# Altium footprint library PCB11.PcbLib: 36 footprints (part 1 of 3)
Each footprint in its own frame and in the unit in brackets; x right, y up, seen from the top. Pads: shape width x height; smd on the part's side, far side on the other; paste and mask are expansions set on the pad; w line width, h text height; cw(c..) or ccw(c..) is an arc to the next point about the centre after c.
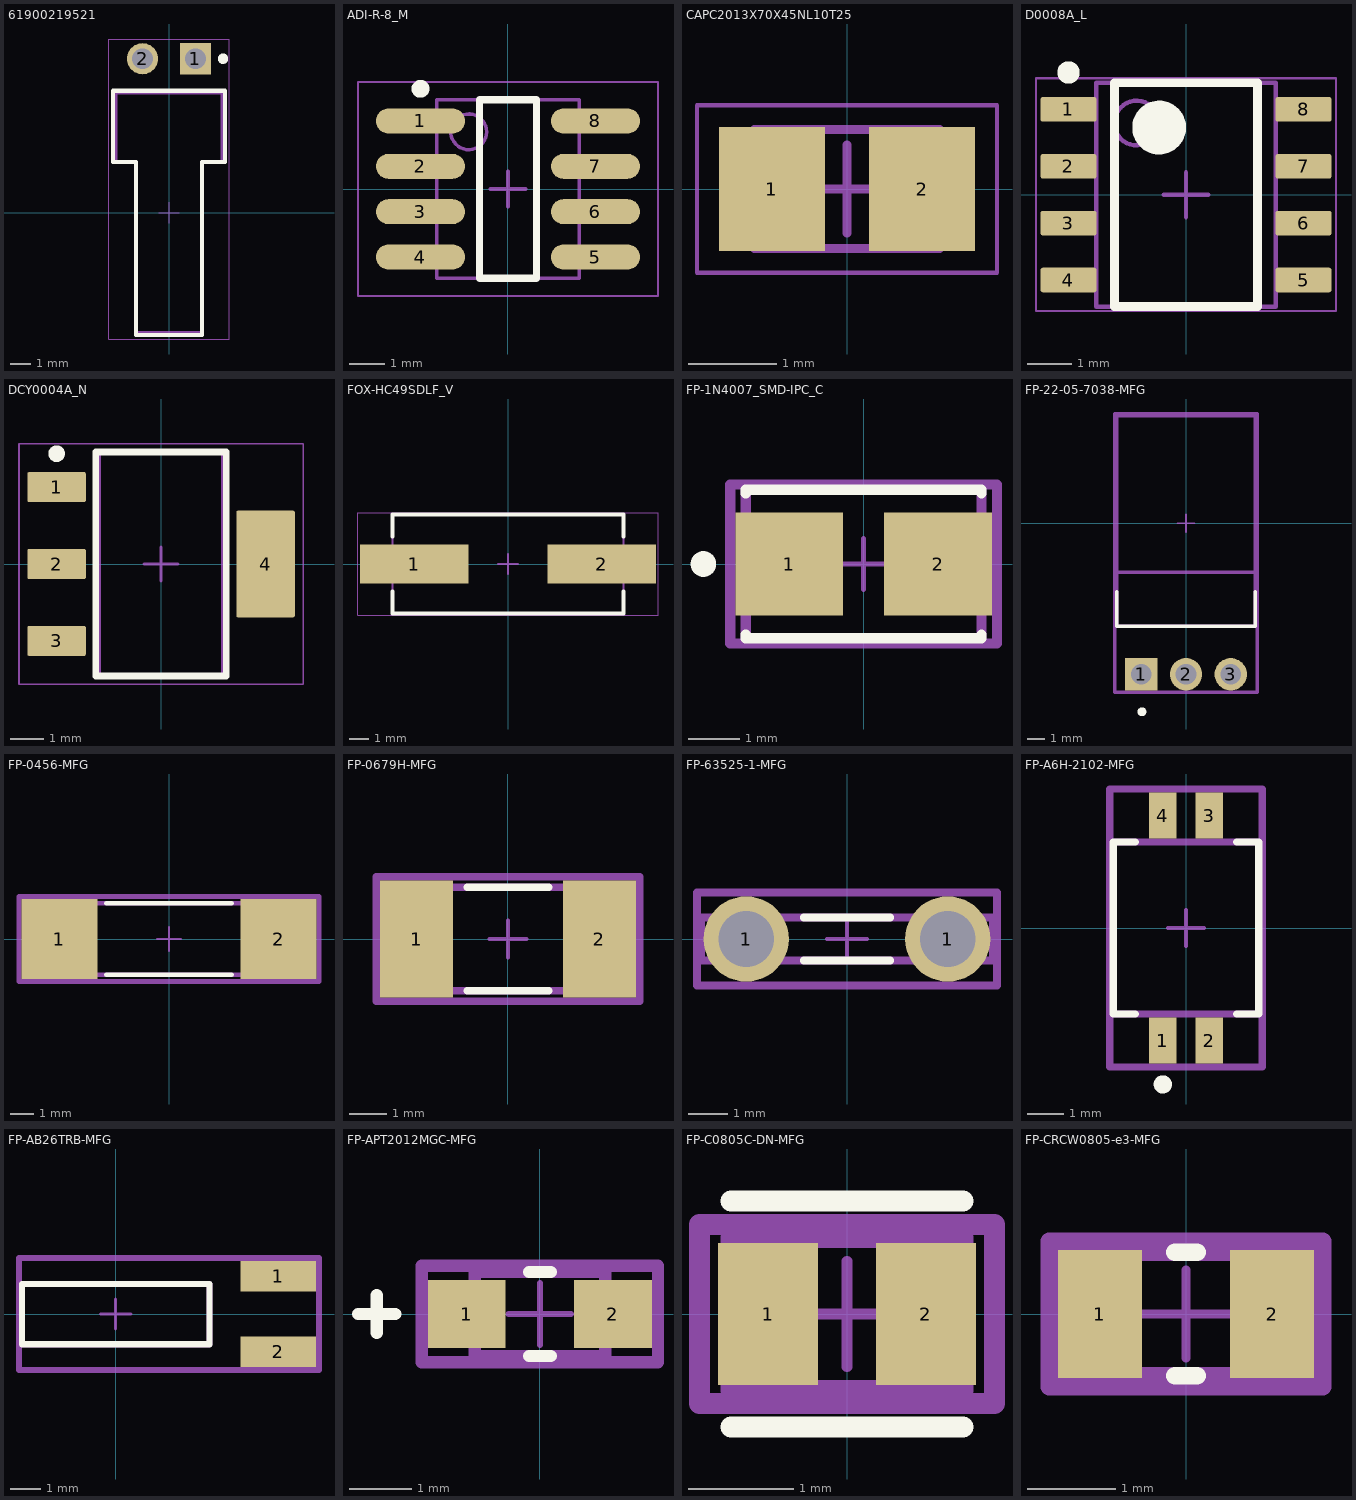
[diagram p0: the footprints below, top view; thin cyan lines are the x and y axes]

## 61900219521 [mm] "2.54mm Male Right Angled Locking Header Top Locking, 2p"
height 5.8
pads (2):
  rect 1.5x1.5 hole 1: 1(1.27,7.42)
  round 1.5 hole 1: 2(-1.27,7.42)
Top Overlay:
  circle w0.25: c2.6,7.42 r0.125
  lines w0.2: -2.69,2.45 -1.59,2.45 -1.59,-5.875 1.59,-5.875 1.59,2.45 2.69,2.45 2.69,5.875 -2.69,5.875 -2.69,2.45
Top 3D Body:
  lines w0.1: -2.54,2.45 -1.59,2.45 -1.59,-5.75 1.59,-5.75 1.59,2.45 2.54,2.45 2.54,5.75 -2.54,5.75 -2.54,2.45
Top Courtyard:
  lines w0.05: -0.5,0 0.5,0 ; 0,-0.5 0,0.5 ; -2.89,-6.075 -2.89,8.37 2.89,8.37 2.89,-6.075 -2.89,-6.075
3D body "61900219521.stp": height 5.83, standoff -3.37, extent -2.54,-5.75 2.54,7.77

## ADI-R-8_M [mm] "SOIC, 8-Leads, Body 4.9x3.9mm, Pitch 1.27mm, IPC Low Density"
height 1.75
pads (8):
  oval 2.5x0.7 smd: 1(-2.45,1.905) 2(-2.45,0.635) 3(-2.45,-0.635) 4(-2.45,-1.905) 5(2.45,-1.905) 6(2.45,-0.635) 7(2.45,0.635) 8(2.45,1.905)
Top Overlay:
  circle w0.25: c-2.45,2.805 r0.125
  lines w0.2: -0.8,-2.5 -0.8,2.5 0.8,2.5 0.8,-2.5 -0.8,-2.5
Top 3D Body:
  circle w0.1: c-1.1,1.6 r0.5
  lines w0.1: -2,-2.5 -2,2.5 2,2.5 2,-2.5 -2,-2.5
Top Courtyard:
  lines w0.05: -4.2,-3 -4.2,3 4.2,3 4.2,-3 -4.2,-3
  lines w0.1: -0.5,0 0.5,0 ; 0,-0.5 0,0.5
3D body: height 1.75, standoff 0.1, extent -2,-2.5 2,2.5

## CAPC2013X70X45NL10T25 [mm] "Chip Capacitor, 2-Leads, Body 2.00x1.25mm, IPC Medium Density"
height 0.7
pads (2):
  rect 1.2x1.4 smd: 1(-0.85,0) 2(0.85,0)
Top 3D Body:
  lines w0.1: -1.05,-0.675 -1.05,0.675 1.05,0.675 1.05,-0.675 -1.05,-0.675
Top Courtyard:
  lines w0.05: -1.7,-0.95 -1.7,0.95 1.7,0.95 1.7,-0.95 -1.7,-0.95
  lines w0.1: -0.5,0 0.5,0 ; 0,-0.5 0,0.5
3D body: height 0.7, standoff 0, extent -0.6,-0.675 0.6,0.675
3D body: height 0.7, standoff 0, extent -1.05,-0.675 -0.6,0.675
3D body: height 0.7, standoff 0, extent 0.6,-0.675 1.05,0.675

## D0008A_L [mm] "SOIC, 8-Leads, Body 5x4mm, Pitch 1.27mm, IPC High Density"
height 1.75
pads (8):
  rrect18% 1.25x0.55 smd: 1(-2.625,1.905) 2(-2.625,0.635) 3(-2.625,-0.635) 4(-2.625,-1.905) 5(2.625,-1.905) 6(2.625,-0.635) 7(2.625,0.635) 8(2.625,1.905)
Top Overlay:
  circle w0.25: c-2.625,2.73 r0.125
  circle w0.6: c-0.6,1.5 r0.3
  lines w0.2: -1.6,-2.5 -1.6,2.5 1.6,2.5 1.6,-2.5 -1.6,-2.5
Mechanical 1:
  text ".Designator" at -1.397,-0.254 h0.6
Top 3D Body:
  circle w0.1: c-1.1,1.6 r0.5
  lines w0.1: -2,-2.5 -2,2.5 2,2.5 2,-2.5 -2,-2.5
Top Courtyard:
  lines w0.05: -3.35,-2.6 -3.35,2.6 3.35,2.6 3.35,-2.6 -3.35,-2.6
  lines w0.1: -0.5,0 0.5,0 ; 0,-0.5 0,0.5
3D body "SOIC-8akaD0008AakaM08A.stp": height 1.63, standoff 0, extent -3,-2.45 3,2.45

## DCY0004A_N [mm] "SOT223, 4-Leads, Body 6.7x3.7mm, Pitch 2.3mm, IPC Medium Density"
height 1.8
pads (4):
  rrect11% 1.75x0.9 smd: 1(-3.125,2.3) 2(-3.125,0) 3(-3.125,-2.3)
  rrect6% 1.75x3.2 smd: 4(3.125,0)
Top Overlay:
  circle w0.25: c-3.125,3.3 r0.125
  lines w0.2: -1.95,-3.35 -1.95,3.35 1.95,3.35 1.95,-3.35 -1.95,-3.35
Mechanical 1:
  text ".Designator" at -1.651,-0.254 h0.8
Top 3D Body:
  lines w0.1: -1.85,-3.35 -1.85,3.35 1.85,3.35 1.85,-3.35 -1.85,-3.35
Top Courtyard:
  lines w0.05: -4.25,-3.6 -4.25,3.6 4.25,3.6 4.25,-3.6 -4.25,-3.6
  lines w0.1: -0.5,0 0.5,0 ; 0,-0.5 0,0.5
3D body "SOT-223.stp": height 1.62, standoff -0.03, extent -3.5,-3.25 3.5,3.25

## FOX-HC49SDLF_V [mm] "SMD, 2-Leads, Body 5x11.7mm"
height 4.5
pads (2):
  rect 5.5x2 smd: 1(-4.75,0) 2(4.75,0)
Top Overlay:
  lines w0.2: -5.85,-1.4 -5.85,-2.5 5.85,-2.5 5.85,-1.4 ; -5.85,1.4 -5.85,2.5 5.85,2.5 5.85,1.4
Top 3D Body:
  lines w0.1: -5.85,-2.5 5.85,-2.5 5.85,2.5 -5.85,2.5 -5.85,-2.5
Top Courtyard:
  lines w0.05: -7.6,-2.6 -7.6,2.6 7.6,2.6 7.6,-2.6 -7.6,-2.6
  lines w0.1: -0.5,0 0.5,0 ; 0,-0.5 0,0.5
3D body "User Library-HC-49S.STEP": height 4.34, standoff -0.01, extent -6.15,-2.35 6.15,2.35

## FP-1N4007_SMD-IPC_C [mm]
pads (2):
  rect 2.1x2 smd paste+0 mask+0: 1(-1.45,0) 2(1.45,0)
Top Overlay:
  circle w0.25: c-3.125,0 r0.125
  lines w0.2: -2.3,-1.375 -2.3,-1.45 2.3,-1.45 2.3,-1.375 ; -2.3,1.375 -2.3,1.45 2.3,1.45 2.3,1.375
Top Assembly:
  lines w0.2: -2.6,-1.55 2.6,-1.55 2.6,1.55 -2.6,1.55 -2.6,-1.55
Top 3D Body:
  lines w0.2: -2.3,-1.45 2.3,-1.45 2.3,1.45 -2.3,1.45 -2.3,-1.45
Top Courtyard:
  lines w0.2: -2.6,-1.55 2.6,-1.55 2.6,1.55 -2.6,1.55 -2.6,-1.55
Top Component Center:
  lines w0.1: -0.5,0 0.5,0 ; 0,-0.5 0,0.5
3D body "Diode_Multicomp_1N4007_SMD_eec.STEP": height 0.25, standoff 0, extent -2.6,-1.55 2.6,1.55

## FP-22-05-7038-MFG [mm]
pads (3):
  rect 1.84x1.84 hole 1.19 paste-1000 mask+0: 1(-2.54,-8.57)
  round 1.84 hole 1.19 paste-1000 mask+0: 2(0,-8.57) 3(2.54,-8.57)
Top Overlay:
  circle w0.25: c-2.5,-10.7 r0.125
  lines w0.2: -3.935,-3.875 -3.935,-5.85 3.935,-5.85 3.935,-3.875
Top Assembly:
  lines w0.2: -4.035,-9.59 4.035,-9.59 4.035,6.2 -4.035,6.2 -4.035,-9.59
Top 3D Body:
  lines w0.2: -4.035,-2.77 4.035,-2.77 ; -3.935,-5.85 3.935,-5.85 3.935,6.1 -3.935,6.1 -3.935,-5.85
Top Courtyard:
  lines w0.2: -4.035,-9.59 4.035,-9.59 4.035,6.2 -4.035,6.2 -4.035,-9.59
Top Component Center:
  lines w0.1: -0.5,0 0.5,0 ; 0,-0.5 0,0.5
3D body "Conn_Molex_22-05-7038_eec.STEP": height 0.25, standoff 0, extent -4.035,-9.59 4.035,6.2

## FP-0456-MFG [mm]
pads (2):
  rect 3.25x3.43 smd paste+0 mask+0: 1(-4.675,0) 2(4.675,0)
Top Overlay:
  lines w0.2: -2.675,-1.525 2.675,-1.525 ; -2.675,1.525 2.675,1.525
Top Assembly:
  lines w0.2: -6.4,-1.815 6.4,-1.815 6.4,1.815 -6.4,1.815 -6.4,-1.815
Top 3D Body:
  lines w0.2: -5.04,-1.525 5.04,-1.525 5.04,1.525 -5.04,1.525 -5.04,-1.525
Top Courtyard:
  lines w0.2: -6.4,-1.815 6.4,-1.815 6.4,1.815 -6.4,1.815 -6.4,-1.815
Top Component Center:
  lines w0.1: -0.5,0 0.5,0 ; 0,-0.5 0,0.5
3D body "Fuse_Littelfuse_0456030_ER_eec.STEP": height 0.25, standoff 0, extent -6.4,-1.815 6.4,1.815

## FP-0679H-MFG [mm]
pads (2):
  rect 1.96x3.15 smd paste+0 mask+0: 1(-2.455,0) 2(2.455,0)
Top Overlay:
  lines w0.2: -1.1,-1.395 1.1,-1.395 ; -1.1,1.395 1.1,1.395
Top Assembly:
  lines w0.2: -3.535,-1.675 3.535,-1.675 3.535,1.675 -3.535,1.675 -3.535,-1.675
Top 3D Body:
  lines w0.2: -3.175,-1.395 3.175,-1.395 3.175,1.395 -3.175,1.395 -3.175,-1.395
Top Courtyard:
  lines w0.2: -3.535,-1.675 3.535,-1.675 3.535,1.675 -3.535,1.675 -3.535,-1.675
Top Component Center:
  lines w0.1: -0.5,0 0.5,0 ; 0,-0.5 0,0.5
3D body "Fuse_Bel_Fuse_0679H1500-05_eec.STEP": height 0.25, standoff 0, extent -3.535,-1.675 3.535,1.675

## FP-63525-1-MFG [mm]
pads (2):
  round 2.15 hole 1.4 paste-1000 mask+0: 1(-2.54,0) 1(2.54,0)
Top Overlay:
  lines w0.2: -1.09,-0.54 1.09,-0.54 ; -1.09,0.54 1.09,0.54
Top Assembly:
  lines w0.2: -3.78,-1.175 3.78,-1.175 3.78,1.175 -3.78,1.175 -3.78,-1.175
Top 3D Body:
  lines w0.2: -3.68,-0.54 3.68,-0.54 3.68,0.54 -3.68,0.54 -3.68,-0.54
Top Courtyard:
  lines w0.2: -3.78,-1.175 3.78,-1.175 3.78,1.175 -3.78,1.175 -3.78,-1.175
Top Component Center:
  lines w0.1: -0.5,0 0.5,0 ; 0,-0.5 0,0.5
3D body "Conn_TE_Connectivity_63525-1_eec.STEP": height 0.25, standoff 0, extent -3.78,-1.175 3.78,1.175

## FP-A6H-2102-MFG [mm]
pads (4):
  rect 0.76x1.25 smd paste+0 mask+0: 1(-0.635,-3.075) 2(0.635,-3.075) 3(0.635,3.075) 4(-0.635,3.075)
Top Overlay:
  circle w0.25: c-0.635,-4.275 r0.125
  lines w0.2: -1.39,-2.35 -1.985,-2.35 -1.985,2.35 -1.39,2.35 ; 1.39,-2.35 1.985,-2.35 1.985,2.35 1.39,2.35
Top Assembly:
  lines w0.2: -2.085,-3.8 2.085,-3.8 2.085,3.8 -2.085,3.8 -2.085,-3.8
  text ".Designator" at 0,0.188 h1
Top 3D Body:
  lines w0.2: -1.985,-2.35 1.985,-2.35 1.985,2.35 -1.985,2.35 -1.985,-2.35
Top Courtyard:
  lines w0.2: -2.085,-3.8 2.085,-3.8 2.085,3.8 -2.085,3.8 -2.085,-3.8
Top Component Center:
  lines w0.1: -0.5,0 0.5,0 ; 0,-0.5 0,0.5
3D body "Switch_Omron_Electronics_Inc-EMC_Div_A6H-2102_eec.STEP": height 0.25, standoff 0, extent -2.085,-3.8 2.085,3.8

## FP-AB26TRB-MFG [mm]
pads (2):
  rect 2.5x1 smd paste+0 mask+0: 1(5.375,1.25) 2(5.375,-1.25)
Top Overlay:
  lines w0.2: -3.1,-1 3.1,-1 3.1,1 -3.1,1 -3.1,-1
Top Assembly:
  lines w0.2: -3.2,-1.85 6.725,-1.85 6.725,1.85 -3.2,1.85 -3.2,-1.85
Top 3D Body:
  lines w0.2: -3.1,-1 3.1,-1 3.1,1 -3.1,1 -3.1,-1
Top Courtyard:
  lines w0.2: -3.2,-1.85 6.725,-1.85 6.725,1.85 -3.2,1.85 -3.2,-1.85
Top Component Center:
  lines w0.1: -0.5,0 0.5,0 ; 0,-0.5 0,0.5
3D body "Crys_Abracon_AB26TRB-32_768KHZ-T_eec.STEP": height 0.25, standoff 0, extent -3.2,-1.85 6.725,1.85

## FP-APT2012MGC-MFG [mm]
pads (2):
  rect 1.25x1.1 smd paste+0 mask+0: 1(-1.175,0) 2(1.175,0)
Top Overlay:
  lines w0.2: -2.925,0 -2.325,0 ; -2.625,-0.3 -2.625,0.3 ; -0.175,-0.675 0.175,-0.675 ; -0.175,0.675 0.175,0.675
Top Assembly:
  lines w0.2: -1.9,-0.775 1.9,-0.775 1.9,0.775 -1.9,0.775 -1.9,-0.775
  text ".Designator" at 0,0 h1
Top 3D Body:
  lines w0.2: -1.05,-0.675 1.05,-0.675 1.05,0.675 -1.05,0.675 -1.05,-0.675
Top Courtyard:
  lines w0.2: -1.9,-0.775 1.9,-0.775 1.9,0.775 -1.9,0.775 -1.9,-0.775
Top Component Center:
  lines w0.1: -0.5,0 0.5,0 ; 0,-0.5 0,0.5
3D body "Diode_Kingbright_APT2012MGC_eec.STEP": height 0.25, standoff 0, extent -1.9,-0.775 1.9,0.775

## FP-C0805C-DN-MFG [mm]
pads (2):
  rect 0.95x1.35 smd paste+0 mask+0: 1(-0.75,0) 2(0.75,0)
Top Overlay:
  lines w0.2: -1.1,-1.075 1.1,-1.075 ; -1.1,1.075 1.1,1.075
Top Assembly:
  lines w0.2: -1.4,-0.85 -1.4,0.85 1.4,0.85 1.4,-0.85 -1.4,-0.85
  text ".Designator" at 0,0.188 h1
Top 3D Body:
  lines w0.2: -1.1,-0.725 -1.1,0.725 1.1,0.725 1.1,-0.725 -1.1,-0.725
Top Courtyard:
  lines w0.2: -1.4,-0.85 -1.4,0.85 1.4,0.85 1.4,-0.85 -1.4,-0.85
Top Component Center:
  lines w0.1: -0.5,0 0.5,0 ; 0,-0.5 0,0.5
3D body "Cap_KEMET_C0805C472J3HAC_eec.STEP": height 0.25, standoff 0, extent -1.4,-0.85 1.4,0.85

## FP-CRCW0805-e3-MFG [mm]
pads (2):
  rect 0.95x1.45 smd paste+0 mask+0: 1(-0.975,0) 2(0.975,0)
Top Overlay:
  lines w0.2: -0.125,-0.7 0.125,-0.7 ; -0.125,0.7 0.125,0.7
Top Assembly:
  lines w0.2: -1.55,-0.825 -1.55,0.825 1.55,0.825 1.55,-0.825 -1.55,-0.825
  text ".Designator" at 0,0.188 h1
Top 3D Body:
  lines w0.2: -1.1,-0.7 -1.1,0.7 1.1,0.7 1.1,-0.7 -1.1,-0.7
Top Courtyard:
  lines w0.2: -1.55,-0.825 -1.55,0.825 1.55,0.825 1.55,-0.825 -1.55,-0.825
Top Component Center:
  lines w0.1: -0.5,0 0.5,0 ; 0,-0.5 0,0.5
3D body "Res_Vishay_CRCW0805100KFKEA_eec.STEP": height 0.25, standoff 0, extent -1.55,-0.825 1.55,0.825